# EAGLE library part STM32F746ZGT7 (library My_Library)
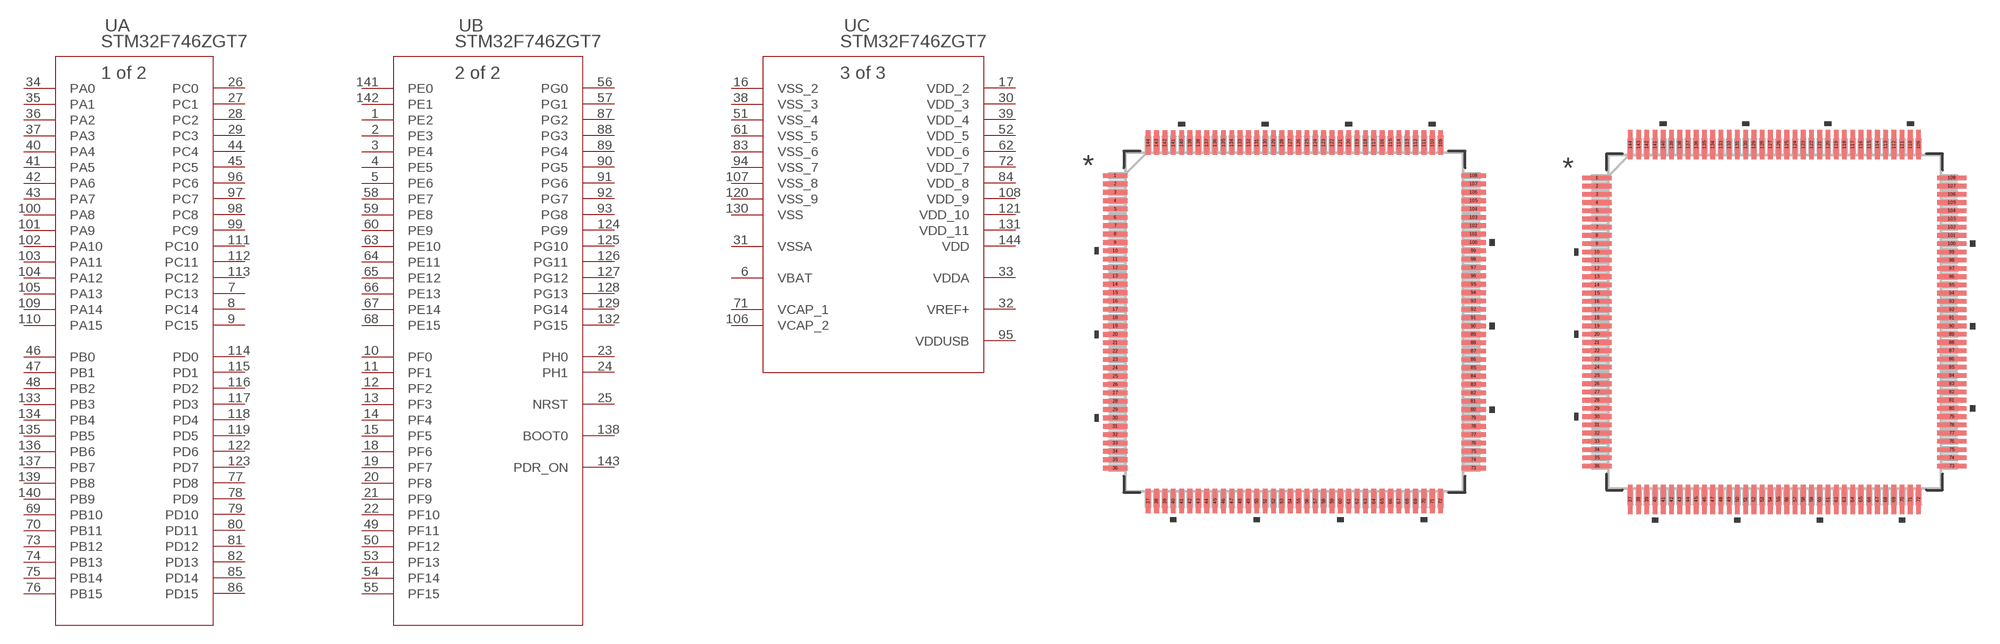
[diagram p7: symbol with the pads of LQFP-144_STM; footprints LQFP-144_STM, LQFP-144_STM-M]

Designator prefix U; gates A=STM32F746ZGT7_A B=STM32F746ZGT7_B C=STM32F746ZGT7_C

## STM32F746ZGT7 (COPYRIGHT: Copyright (C) 2024 Ultra Librarian. All rights reserved.; MANUFACTURER_PART_NUMBER: STM32F746ZGT7; MFR_NAME: STMicroelectronics)  [LQFP-144_STM]
1  B:PE2
2  B:PE3
3  B:PE4
4  B:PE5
5  B:PE6
6  C:VBAT  pwr
7  A:PC13
8  A:PC14
9  A:PC15
10  B:PF0
11  B:PF1
12  B:PF2
13  B:PF3
14  B:PF4
15  B:PF5
16  C:VSS_2  pwr
17  C:VDD_2  pwr
18  B:PF6
19  B:PF7
20  B:PF8
21  B:PF9
22  B:PF10
23  B:PH0
24  B:PH1
25  B:NRST
26  A:PC0
27  A:PC1
28  A:PC2
29  A:PC3
30  C:VDD_3  pwr
31  C:VSSA  pwr
32  C:VREF+  pwr
33  C:VDDA  pwr
34  A:PA0
35  A:PA1
36  A:PA2
37  A:PA3
38  C:VSS_3  pwr
39  C:VDD_4  pwr
40  A:PA4
41  A:PA5
42  A:PA6
43  A:PA7
44  A:PC4
45  A:PC5
46  A:PB0
47  A:PB1
48  A:PB2
49  B:PF11
50  B:PF12
51  C:VSS_4  pwr
52  C:VDD_5  pwr
53  B:PF13
54  B:PF14
55  B:PF15
56  B:PG0
57  B:PG1
58  B:PE7
59  B:PE8
60  B:PE9
61  C:VSS_5  pwr
62  C:VDD_6  pwr
63  B:PE10
64  B:PE11
65  B:PE12
66  B:PE13
67  B:PE14
68  B:PE15
69  A:PB10
70  A:PB11
71  C:VCAP_1  pwr
72  C:VDD_7  pwr
73  A:PB12
74  A:PB13
75  A:PB14
76  A:PB15
77  A:PD8
78  A:PD9
79  A:PD10
80  A:PD11
81  A:PD12
82  A:PD13
83  C:VSS_6  pwr
84  C:VDD_8  pwr
85  A:PD14
86  A:PD15
87  B:PG2
88  B:PG3
89  B:PG4
90  B:PG5
91  B:PG6
92  B:PG7
93  B:PG8
94  C:VSS_7  pwr
95  C:VDDUSB  pwr
96  A:PC6
97  A:PC7
98  A:PC8
99  A:PC9
100  A:PA8
101  A:PA9
102  A:PA10
103  A:PA11
104  A:PA12
105  A:PA13
106  C:VCAP_2  pwr
107  C:VSS_8  pwr
108  C:VDD_9  pwr
109  A:PA14
110  A:PA15
111  A:PC10
112  A:PC11
113  A:PC12
114  A:PD0
115  A:PD1
116  A:PD2
117  A:PD3
118  A:PD4
119  A:PD5
120  C:VSS_9  pwr
121  C:VDD_10  pwr
122  A:PD6
123  A:PD7
124  B:PG9
125  B:PG10
126  B:PG11
127  B:PG12
128  B:PG13
129  B:PG14
130  C:VSS  pwr
131  C:VDD_11  pwr
132  B:PG15
133  A:PB3
134  A:PB4
135  A:PB5
136  A:PB6
137  A:PB7
138  B:BOOT0  in
139  A:PB8
140  A:PB9
141  B:PE0
142  B:PE1
143  B:PDR_ON
144  C:VDD  pwr

## STM32F746ZGT7LQFP-144_STM-M (COPYRIGHT: Copyright (C) 2024 Ultra Librarian. All rights reserved.; MANUFACTURER_PART_NUMBER: STM32F746ZGT7; MFR_NAME: STMicroelectronics)  [LQFP-144_STM-M]
Pads as for LQFP-144_STM

## STM32F746ZGT7LQFP-144_STM-L (COPYRIGHT: Copyright (C) 2024 Ultra Librarian. All rights reserved.; MANUFACTURER_PART_NUMBER: STM32F746ZGT7; MFR_NAME: STMicroelectronics)  [LQFP-144_STM-L]
Pads as for LQFP-144_STM

## Footprint LQFP-144_STM (pad centres in mm)
smd 1.473 x 0.279: 1 -10.719,8.75; 2 -10.719,8.25; 3 -10.719,7.75; 4 -10.719,7.25; 5 -10.719,6.75; 6 -10.719,6.25; 7 -10.719,5.75; 8 -10.719,5.25; 9 -10.719,4.75; 10 -10.719,4.25; 11 -10.719,3.75; 12 -10.719,3.25; 13 -10.719,2.75; 14 -10.719,2.25; 15 -10.719,1.75; 16 -10.719,1.25; 17 -10.719,0.75; 18 -10.719,0.25; 19 -10.719,-0.25; 20 -10.719,-0.75; 21 -10.719,-1.25; 22 -10.719,-1.75; 23 -10.719,-2.25; 24 -10.719,-2.75; 25 -10.719,-3.25; 26 -10.719,-3.75; 27 -10.719,-4.25; 28 -10.719,-4.75; 29 -10.719,-5.25; 30 -10.719,-5.75; 31 -10.719,-6.25; 32 -10.719,-6.75; 33 -10.719,-7.25; 34 -10.719,-7.75; 35 -10.719,-8.25; 36 -10.719,-8.75; 73 10.719,-8.75; 74 10.719,-8.25; 75 10.719,-7.75; 76 10.719,-7.25; 77 10.719,-6.75; 78 10.719,-6.25; 79 10.719,-5.75; 80 10.719,-5.25; 81 10.719,-4.75; 82 10.719,-4.25; 83 10.719,-3.75; 84 10.719,-3.25; 85 10.719,-2.75; 86 10.719,-2.25; 87 10.719,-1.75; 88 10.719,-1.25; 89 10.719,-0.75; 90 10.719,-0.25; 91 10.719,0.25; 92 10.719,0.75; 93 10.719,1.25; 94 10.719,1.75; 95 10.719,2.25; 96 10.719,2.75; 97 10.719,3.25; 98 10.719,3.75; 99 10.719,4.25; 100 10.719,4.75; 101 10.719,5.25; 102 10.719,5.75; 103 10.719,6.25; 104 10.719,6.75; 105 10.719,7.25; 106 10.719,7.75; 107 10.719,8.25; 108 10.719,8.75
smd 0.279 x 1.473: 37 -8.75,-10.719; 38 -8.25,-10.719; 39 -7.75,-10.719; 40 -7.25,-10.719; 41 -6.75,-10.719; 42 -6.25,-10.719; 43 -5.75,-10.719; 44 -5.25,-10.719; 45 -4.75,-10.719; 46 -4.25,-10.719; 47 -3.75,-10.719; 48 -3.25,-10.719; 49 -2.75,-10.719; 50 -2.25,-10.719; 51 -1.75,-10.719; 52 -1.25,-10.719; 53 -0.75,-10.719; 54 -0.25,-10.719; 55 0.25,-10.719; 56 0.75,-10.719; 57 1.25,-10.719; 58 1.75,-10.719; 59 2.25,-10.719; 60 2.75,-10.719; 61 3.25,-10.719; 62 3.75,-10.719; 63 4.25,-10.719; 64 4.75,-10.719; 65 5.25,-10.719; 66 5.75,-10.719; 67 6.25,-10.719; 68 6.75,-10.719; 69 7.25,-10.719; 70 7.75,-10.719; 71 8.25,-10.719; 72 8.75,-10.719; 109 8.75,10.719; 110 8.25,10.719; 111 7.75,10.719; 112 7.25,10.719; 113 6.75,10.719; 114 6.25,10.719; 115 5.75,10.719; 116 5.25,10.719; 117 4.75,10.719; 118 4.25,10.719; 119 3.75,10.719; 120 3.25,10.719; 121 2.75,10.719; 122 2.25,10.719; 123 1.75,10.719; 124 1.25,10.719; 125 0.75,10.719; 126 0.25,10.719; 127 -0.25,10.719; 128 -0.75,10.719; 129 -1.25,10.719; 130 -1.75,10.719; 131 -2.25,10.719; 132 -2.75,10.719; 133 -3.25,10.719; 134 -3.75,10.719; 135 -4.25,10.719; 136 -4.75,10.719; 137 -5.25,10.719; 138 -5.75,10.719; 139 -6.25,10.719; 140 -6.75,10.719; 141 -7.25,10.719; 142 -7.75,10.719; 143 -8.25,10.719; 144 -8.75,10.719

## Footprint LQFP-144_STM-M (pad centres in mm)
smd 1.778 x 0.279: 1 -10.77,8.75; 2 -10.77,8.25; 3 -10.77,7.75; 4 -10.77,7.25; 5 -10.77,6.75; 6 -10.77,6.25; 7 -10.77,5.75; 8 -10.77,5.25; 9 -10.77,4.75; 10 -10.77,4.25; 11 -10.77,3.75; 12 -10.77,3.25; 13 -10.77,2.75; 14 -10.77,2.25; 15 -10.77,1.75; 16 -10.77,1.25; 17 -10.77,0.75; 18 -10.77,0.25; 19 -10.77,-0.25; 20 -10.77,-0.75; 21 -10.77,-1.25; 22 -10.77,-1.75; 23 -10.77,-2.25; 24 -10.77,-2.75; 25 -10.77,-3.25; 26 -10.77,-3.75; 27 -10.77,-4.25; 28 -10.77,-4.75; 29 -10.77,-5.25; 30 -10.77,-5.75; 31 -10.77,-6.25; 32 -10.77,-6.75; 33 -10.77,-7.25; 34 -10.77,-7.75; 35 -10.77,-8.25; 36 -10.77,-8.75; 73 10.77,-8.75; 74 10.77,-8.25; 75 10.77,-7.75; 76 10.77,-7.25; 77 10.77,-6.75; 78 10.77,-6.25; 79 10.77,-5.75; 80 10.77,-5.25; 81 10.77,-4.75; 82 10.77,-4.25; 83 10.77,-3.75; 84 10.77,-3.25; 85 10.77,-2.75; 86 10.77,-2.25; 87 10.77,-1.75; 88 10.77,-1.25; 89 10.77,-0.75; 90 10.77,-0.25; 91 10.77,0.25; 92 10.77,0.75; 93 10.77,1.25; 94 10.77,1.75; 95 10.77,2.25; 96 10.77,2.75; 97 10.77,3.25; 98 10.77,3.75; 99 10.77,4.25; 100 10.77,4.75; 101 10.77,5.25; 102 10.77,5.75; 103 10.77,6.25; 104 10.77,6.75; 105 10.77,7.25; 106 10.77,7.75; 107 10.77,8.25; 108 10.77,8.75
smd 0.279 x 1.778: 37 -8.75,-10.77; 38 -8.25,-10.77; 39 -7.75,-10.77; 40 -7.25,-10.77; 41 -6.75,-10.77; 42 -6.25,-10.77; 43 -5.75,-10.77; 44 -5.25,-10.77; 45 -4.75,-10.77; 46 -4.25,-10.77; 47 -3.75,-10.77; 48 -3.25,-10.77; 49 -2.75,-10.77; 50 -2.25,-10.77; 51 -1.75,-10.77; 52 -1.25,-10.77; 53 -0.75,-10.77; 54 -0.25,-10.77; 55 0.25,-10.77; 56 0.75,-10.77; 57 1.25,-10.77; 58 1.75,-10.77; 59 2.25,-10.77; 60 2.75,-10.77; 61 3.25,-10.77; 62 3.75,-10.77; 63 4.25,-10.77; 64 4.75,-10.77; 65 5.25,-10.77; 66 5.75,-10.77; 67 6.25,-10.77; 68 6.75,-10.77; 69 7.25,-10.77; 70 7.75,-10.77; 71 8.25,-10.77; 72 8.75,-10.77; 109 8.75,10.77; 110 8.25,10.77; 111 7.75,10.77; 112 7.25,10.77; 113 6.75,10.77; 114 6.25,10.77; 115 5.75,10.77; 116 5.25,10.77; 117 4.75,10.77; 118 4.25,10.77; 119 3.75,10.77; 120 3.25,10.77; 121 2.75,10.77; 122 2.25,10.77; 123 1.75,10.77; 124 1.25,10.77; 125 0.75,10.77; 126 0.25,10.77; 127 -0.25,10.77; 128 -0.75,10.77; 129 -1.25,10.77; 130 -1.75,10.77; 131 -2.25,10.77; 132 -2.75,10.77; 133 -3.25,10.77; 134 -3.75,10.77; 135 -4.25,10.77; 136 -4.75,10.77; 137 -5.25,10.77; 138 -5.75,10.77; 139 -6.25,10.77; 140 -6.75,10.77; 141 -7.25,10.77; 142 -7.75,10.77; 143 -8.25,10.77; 144 -8.75,10.77

## Footprint LQFP-144_STM-L (pad centres in mm)
smd 1.168 x 0.229: 1 -10.668,8.75; 2 -10.668,8.25; 3 -10.668,7.75; 4 -10.668,7.25; 5 -10.668,6.75; 6 -10.668,6.25; 7 -10.668,5.75; 8 -10.668,5.25; 9 -10.668,4.75; 10 -10.668,4.25; 11 -10.668,3.75; 12 -10.668,3.25; 13 -10.668,2.75; 14 -10.668,2.25; 15 -10.668,1.75; 16 -10.668,1.25; 17 -10.668,0.75; 18 -10.668,0.25; 19 -10.668,-0.25; 20 -10.668,-0.75; 21 -10.668,-1.25; 22 -10.668,-1.75; 23 -10.668,-2.25; 24 -10.668,-2.75; 25 -10.668,-3.25; 26 -10.668,-3.75; 27 -10.668,-4.25; 28 -10.668,-4.75; 29 -10.668,-5.25; 30 -10.668,-5.75; 31 -10.668,-6.25; 32 -10.668,-6.75; 33 -10.668,-7.25; 34 -10.668,-7.75; 35 -10.668,-8.25; 36 -10.668,-8.75; 73 10.668,-8.75; 74 10.668,-8.25; 75 10.668,-7.75; 76 10.668,-7.25; 77 10.668,-6.75; 78 10.668,-6.25; 79 10.668,-5.75; 80 10.668,-5.25; 81 10.668,-4.75; 82 10.668,-4.25; 83 10.668,-3.75; 84 10.668,-3.25; 85 10.668,-2.75; 86 10.668,-2.25; 87 10.668,-1.75; 88 10.668,-1.25; 89 10.668,-0.75; 90 10.668,-0.25; 91 10.668,0.25; 92 10.668,0.75; 93 10.668,1.25; 94 10.668,1.75; 95 10.668,2.25; 96 10.668,2.75; 97 10.668,3.25; 98 10.668,3.75; 99 10.668,4.25; 100 10.668,4.75; 101 10.668,5.25; 102 10.668,5.75; 103 10.668,6.25; 104 10.668,6.75; 105 10.668,7.25; 106 10.668,7.75; 107 10.668,8.25; 108 10.668,8.75
smd 0.229 x 1.168: 37 -8.75,-10.668; 38 -8.25,-10.668; 39 -7.75,-10.668; 40 -7.25,-10.668; 41 -6.75,-10.668; 42 -6.25,-10.668; 43 -5.75,-10.668; 44 -5.25,-10.668; 45 -4.75,-10.668; 46 -4.25,-10.668; 47 -3.75,-10.668; 48 -3.25,-10.668; 49 -2.75,-10.668; 50 -2.25,-10.668; 51 -1.75,-10.668; 52 -1.25,-10.668; 53 -0.75,-10.668; 54 -0.25,-10.668; 55 0.25,-10.668; 56 0.75,-10.668; 57 1.25,-10.668; 58 1.75,-10.668; 59 2.25,-10.668; 60 2.75,-10.668; 61 3.25,-10.668; 62 3.75,-10.668; 63 4.25,-10.668; 64 4.75,-10.668; 65 5.25,-10.668; 66 5.75,-10.668; 67 6.25,-10.668; 68 6.75,-10.668; 69 7.25,-10.668; 70 7.75,-10.668; 71 8.25,-10.668; 72 8.75,-10.668; 109 8.75,10.668; 110 8.25,10.668; 111 7.75,10.668; 112 7.25,10.668; 113 6.75,10.668; 114 6.25,10.668; 115 5.75,10.668; 116 5.25,10.668; 117 4.75,10.668; 118 4.25,10.668; 119 3.75,10.668; 120 3.25,10.668; 121 2.75,10.668; 122 2.25,10.668; 123 1.75,10.668; 124 1.25,10.668; 125 0.75,10.668; 126 0.25,10.668; 127 -0.25,10.668; 128 -0.75,10.668; 129 -1.25,10.668; 130 -1.75,10.668; 131 -2.25,10.668; 132 -2.75,10.668; 133 -3.25,10.668; 134 -3.75,10.668; 135 -4.25,10.668; 136 -4.75,10.668; 137 -5.25,10.668; 138 -5.75,10.668; 139 -6.25,10.668; 140 -6.75,10.668; 141 -7.25,10.668; 142 -7.75,10.668; 143 -8.25,10.668; 144 -8.75,10.668